# Altium footprint library E49400T20S.PcbLib: 2 footprints
Each footprint in its own frame and in the unit in brackets; x right, y up, seen from the top. Pads: shape width x height; smd on the part's side, far side on the other; paste and mask are expansions set on the pad; w line width, h text height; cw(c..) or ccw(c..) is an arc to the next point about the centre after c.
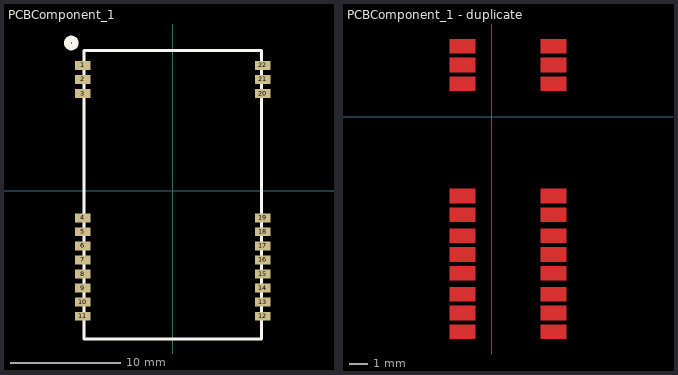
[diagram p0: the footprints below, top view; thin cyan lines are the x and y axes]

## PCBComponent_1 [mm]
pads (22):
  rect 1.4x0.8 smd: 1(-8.128,11.315) 2(-8.128,10.045) 3(-8.128,8.775) 4(-8.128,-2.449) 5(-8.128,-3.695) 6(-8.128,-4.965) 7(-8.128,-6.235) 8(-8.128,-7.505) 9(-8.128,-8.775) 10(-8.128,-10.045) 11(-8.128,-11.315) 12(8.128,-11.315) 13(8.128,-10.045) 14(8.128,-8.775) 15(8.128,-7.505) 16(8.128,-6.235) 17(8.128,-4.965) 18(8.128,-3.695) 19(8.128,-2.449) 20(8.128,8.775) 21(8.128,10.045) 22(8.128,11.315)
Top Overlay:
  circle w0.6: c-9.144,13.335 r0.359
  lines w0.254: -8.001,-13.366 8.001,-13.366 8.001,12.669 -8.001,12.669 -8.001,-13.366

## PCBComponent_1 - duplicate [mm]
Top Layer:
  rectangle: -2.289,3.429 -0.889,4.229
  rectangle: -2.289,2.413 -0.889,3.213
  rectangle: -2.289,1.397 -0.889,2.197
  rectangle: -2.289,-4.699 -0.889,-3.899
  rectangle: -2.289,-5.715 -0.889,-4.915
  rectangle: -2.289,-6.858 -0.889,-6.058
  rectangle: -2.289,-7.874 -0.889,-7.074
  rectangle: -2.289,-8.89 -0.889,-8.09
  rectangle: -2.289,-10.033 -0.889,-9.233
  rectangle: -2.289,-11.049 -0.889,-10.249
  rectangle: -2.289,-12.065 -0.889,-11.265
  rectangle: 2.664,3.429 4.064,4.229
  rectangle: 2.667,2.413 4.067,3.213
  rectangle: 2.664,1.397 4.064,2.197
  rectangle: 2.664,-4.699 4.064,-3.899
  rectangle: 2.664,-5.715 4.064,-4.915
  rectangle: 2.664,-6.858 4.064,-6.058
  rectangle: 2.664,-7.874 4.064,-7.074
  rectangle: 2.664,-8.89 4.064,-8.09
  rectangle: 2.664,-10.033 4.064,-9.233
  rectangle: 2.664,-11.049 4.064,-10.249
  rectangle: 2.664,-12.065 4.064,-11.265